# Altium schematic symbol library SCH - MCU - INFINEON XMC - INFINEON XMC4800F100.SchLib: 1 symbol
Pins are listed as number, name and electrical type; pins without a type are passive.

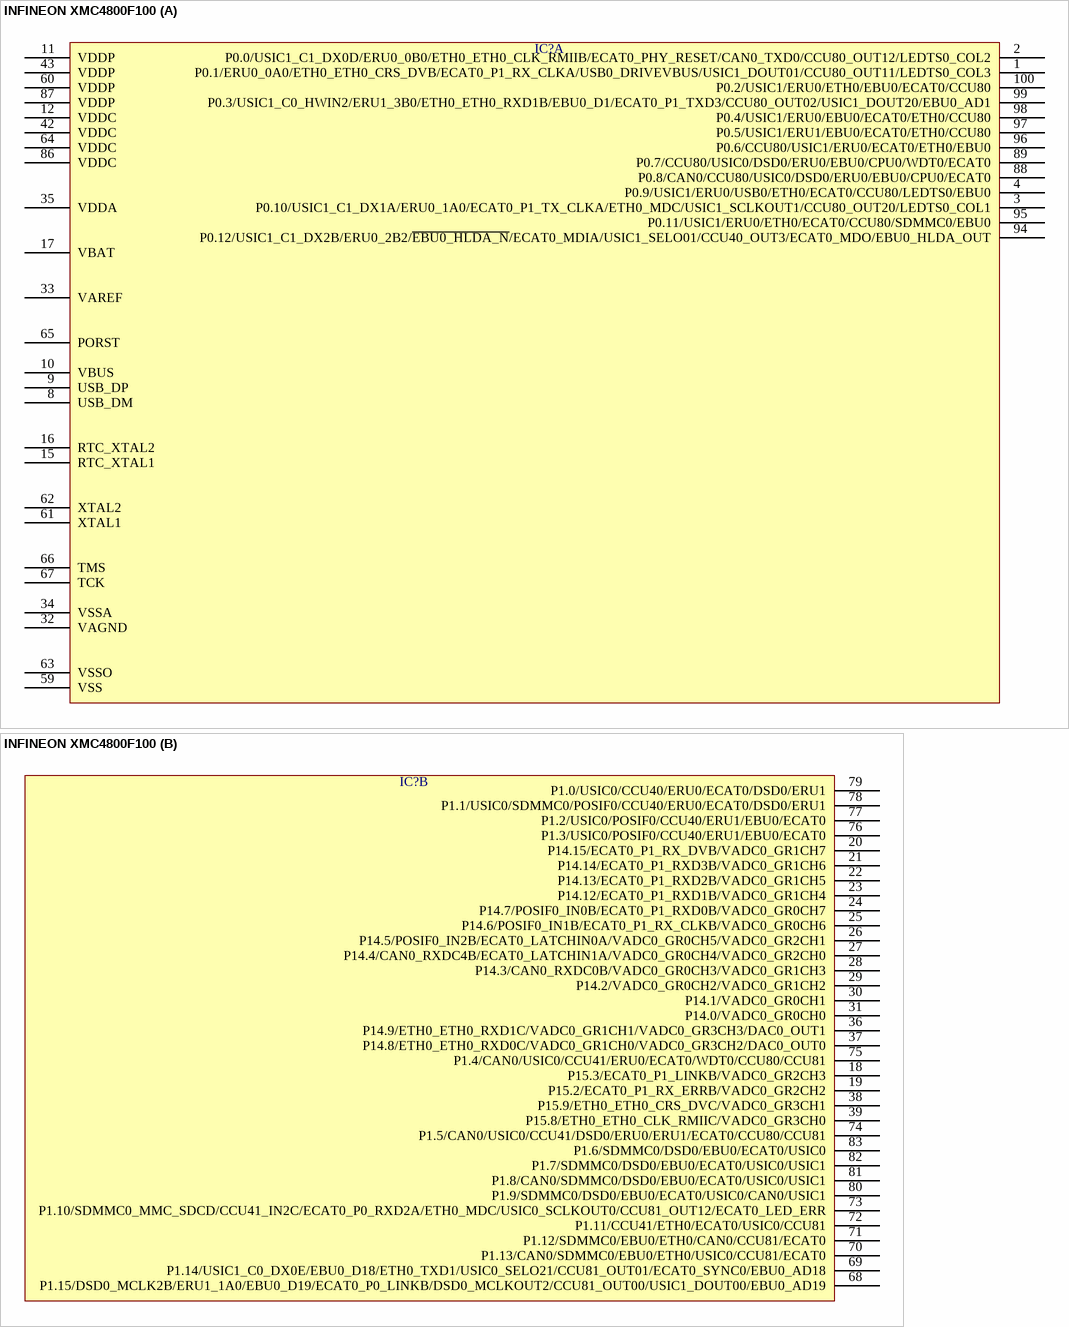
[diagram p0: symbol INFINEON XMC4800F100]

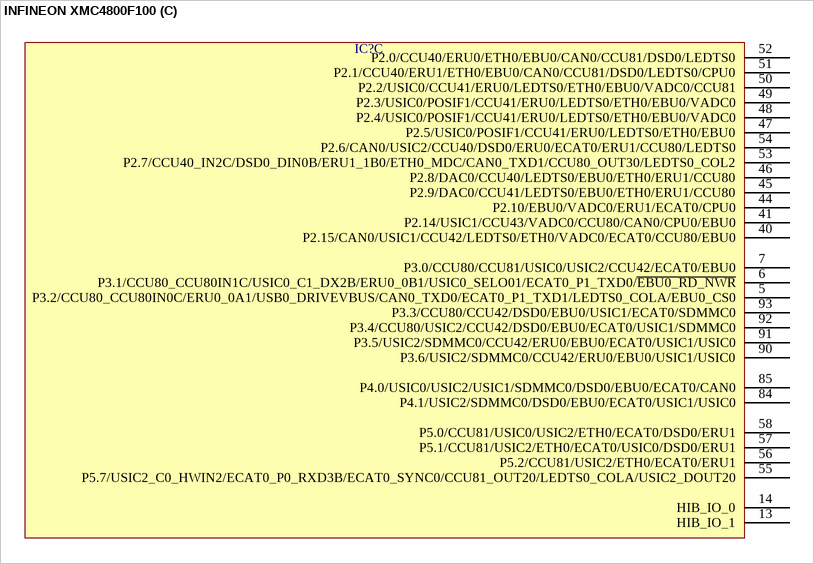
[diagram p1: symbol INFINEON XMC4800F100]

## INFINEON XMC4800F100
designator IC?  (value not drawn)
part A pins: 1 P0.1/ERU0_0A0/ETH0_ETH0_CRS_DVB/ECAT0_P1_RX_CLKA/USB0_DRIVEVBUS/USIC1_DOUT01/CCU80_OUT11/LEDTS0_COL3, 2 P0.0/USIC1_C1_DX0D/ERU0_0B0/ETH0_ETH0_CLK_RMIIB/ECAT0_PHY_RESET/CAN0_TXD0/CCU80_OUT12/LEDTS0_COL2, 3 P0.10/USIC1_C1_DX1A/ERU0_1A0/ECAT0_P1_TX_CLKA/ETH0_MDC/USIC1_SCLKOUT1/CCU80_OUT20/LEDTS0_COL1, 4 P0.9/USIC1/ERU0/USB0/ETH0/ECAT0/CCU80/LEDTS0/EBU0, 8 USB_DM, 9 USB_DP, 10 VBUS, 11 VDDP, 12 VDDC, 15 RTC_XTAL1, 16 RTC_XTAL2, 17 VBAT, 32 VAGND, 33 VAREF, 34 VSSA, 35 VDDA, 42 VDDC, 43 VDDP, 59 VSS, 60 VDDP, 61 XTAL1, 62 XTAL2, 63 VSSO, 64 VDDC, 65 PORST, 66 TMS, 67 TCK, 86 VDDC, 87 VDDP, 88 P0.8/CAN0/CCU80/USIC0/DSD0/ERU0/EBU0/CPU0/ECAT0, 89 P0.7/CCU80/USIC0/DSD0/ERU0/EBU0/CPU0/WDT0/ECAT0, 94 P0.12/USIC1_C1_DX2B/ERU0_2B2/~{EBU0_HLDA_N}/ECAT0_MDIA/USIC1_SELO01/CCU40_OUT3/ECAT0_MDO/EBU0_HLDA_OUT, 95 P0.11/USIC1/ERU0/ETH0/ECAT0/CCU80/SDMMC0/EBU0, 96 P0.6/CCU80/USIC1/ERU0/ECAT0/ETH0/EBU0, 97 P0.5/USIC1/ERU1/EBU0/ECAT0/ETH0/CCU80, 98 P0.4/USIC1/ERU0/EBU0/ECAT0/ETH0/CCU80, 99 P0.3/USIC1_C0_HWIN2/ERU1_3B0/ETH0_ETH0_RXD1B/EBU0_D1/ECAT0_P1_TXD3/CCU80_OUT02/USIC1_DOUT20/EBU0_AD1, 100 P0.2/USIC1/ERU0/ETH0/EBU0/ECAT0/CCU80
part B pins: 18 P15.3/ECAT0_P1_LINKB/VADC0_GR2CH3, 19 P15.2/ECAT0_P1_RX_ERRB/VADC0_GR2CH2, 20 P14.15/ECAT0_P1_RX_DVB/VADC0_GR1CH7, 21 P14.14/ECAT0_P1_RXD3B/VADC0_GR1CH6, 22 P14.13/ECAT0_P1_RXD2B/VADC0_GR1CH5, 23 P14.12/ECAT0_P1_RXD1B/VADC0_GR1CH4, 24 P14.7/POSIF0_IN0B/ECAT0_P1_RXD0B/VADC0_GR0CH7, 25 P14.6/POSIF0_IN1B/ECAT0_P1_RX_CLKB/VADC0_GR0CH6, 26 P14.5/POSIF0_IN2B/ECAT0_LATCHIN0A/VADC0_GR0CH5/VADC0_GR2CH1, 27 P14.4/CAN0_RXDC4B/ECAT0_LATCHIN1A/VADC0_GR0CH4/VADC0_GR2CH0, 28 P14.3/CAN0_RXDC0B/VADC0_GR0CH3/VADC0_GR1CH3, 29 P14.2/VADC0_GR0CH2/VADC0_GR1CH2, 30 P14.1/VADC0_GR0CH1, 31 P14.0/VADC0_GR0CH0, 36 P14.9/ETH0_ETH0_RXD1C/VADC0_GR1CH1/VADC0_GR3CH3/DAC0_OUT1, 37 P14.8/ETH0_ETH0_RXD0C/VADC0_GR1CH0/VADC0_GR3CH2/DAC0_OUT0, 38 P15.9/ETH0_ETH0_CRS_DVC/VADC0_GR3CH1, 39 P15.8/ETH0_ETH0_CLK_RMIIC/VADC0_GR3CH0, 68 P1.15/DSD0_MCLK2B/ERU1_1A0/EBU0_D19/ECAT0_P0_LINKB/DSD0_MCLKOUT2/CCU81_OUT00/USIC1_DOUT00/EBU0_AD19, 69 P1.14/USIC1_C0_DX0E/EBU0_D18/ETH0_TXD1/USIC0_SELO21/CCU81_OUT01/ECAT0_SYNC0/EBU0_AD18, 70 P1.13/CAN0/SDMMC0/EBU0/ETH0/USIC0/CCU81/ECAT0, 71 P1.12/SDMMC0/EBU0/ETH0/CAN0/CCU81/ECAT0, 72 P1.11/CCU41/ETH0/ECAT0/USIC0/CCU81, 73 P1.10/SDMMC0_MMC_SDCD/CCU41_IN2C/ECAT0_P0_RXD2A/ETH0_MDC/USIC0_SCLKOUT0/CCU81_OUT12/ECAT0_LED_ERR, 74 P1.5/CAN0/USIC0/CCU41/DSD0/ERU0/ERU1/ECAT0/CCU80/CCU81, 75 P1.4/CAN0/USIC0/CCU41/ERU0/ECAT0/WDT0/CCU80/CCU81, 76 P1.3/USIC0/POSIF0/CCU40/ERU1/EBU0/ECAT0, 77 P1.2/USIC0/POSIF0/CCU40/ERU1/EBU0/ECAT0, 78 P1.1/USIC0/SDMMC0/POSIF0/CCU40/ERU0/ECAT0/DSD0/ERU1, 79 P1.0/USIC0/CCU40/ERU0/ECAT0/DSD0/ERU1, 80 P1.9/SDMMC0/DSD0/EBU0/ECAT0/USIC0/CAN0/USIC1, 81 P1.8/CAN0/SDMMC0/DSD0/EBU0/ECAT0/USIC0/USIC1, 82 P1.7/SDMMC0/DSD0/EBU0/ECAT0/USIC0/USIC1, 83 P1.6/SDMMC0/DSD0/EBU0/ECAT0/USIC0
part C pins: 5 P3.2/CCU80_CCU80IN0C/ERU0_0A1/USB0_DRIVEVBUS/CAN0_TXD0/ECAT0_P1_TXD1/LEDTS0_COLA/EBU0_CS0, 6 P3.1/CCU80_CCU80IN1C/USIC0_C1_DX2B/ERU0_0B1/USIC0_SELO01/ECAT0_P1_TXD0/~{EBU0_RD_NWR}, 7 P3.0/CCU80/CCU81/USIC0/USIC2/CCU42/ECAT0/EBU0, 13 HIB_IO_1, 14 HIB_IO_0, 40 P2.15/CAN0/USIC1/CCU42/LEDTS0/ETH0/VADC0/ECAT0/CCU80/EBU0, 41 P2.14/USIC1/CCU43/VADC0/CCU80/CAN0/CPU0/EBU0, 44 P2.10/EBU0/VADC0/ERU1/ECAT0/CPU0, 45 P2.9/DAC0/CCU41/LEDTS0/EBU0/ETH0/ERU1/CCU80, 46 P2.8/DAC0/CCU40/LEDTS0/EBU0/ETH0/ERU1/CCU80, 47 P2.5/USIC0/POSIF1/CCU41/ERU0/LEDTS0/ETH0/EBU0, 48 P2.4/USIC0/POSIF1/CCU41/ERU0/LEDTS0/ETH0/EBU0/VADC0, 49 P2.3/USIC0/POSIF1/CCU41/ERU0/LEDTS0/ETH0/EBU0/VADC0, 50 P2.2/USIC0/CCU41/ERU0/LEDTS0/ETH0/EBU0/VADC0/CCU81, 51 P2.1/CCU40/ERU1/ETH0/EBU0/CAN0/CCU81/DSD0/LEDTS0/CPU0, 52 P2.0/CCU40/ERU0/ETH0/EBU0/CAN0/CCU81/DSD0/LEDTS0, 53 P2.7/CCU40_IN2C/DSD0_DIN0B/ERU1_1B0/ETH0_MDC/CAN0_TXD1/CCU80_OUT30/LEDTS0_COL2, 54 P2.6/CAN0/USIC2/CCU40/DSD0/ERU0/ECAT0/ERU1/CCU80/LEDTS0, 55 P5.7/USIC2_C0_HWIN2/ECAT0_P0_RXD3B/ECAT0_SYNC0/CCU81_OUT20/LEDTS0_COLA/USIC2_DOUT20, 56 P5.2/CCU81/USIC2/ETH0/ECAT0/ERU1, 57 P5.1/CCU81/USIC2/ETH0/ECAT0/USIC0/DSD0/ERU1, 58 P5.0/CCU81/USIC0/USIC2/ETH0/ECAT0/DSD0/ERU1, 84 P4.1/USIC2/SDMMC0/DSD0/EBU0/ECAT0/USIC1/USIC0, 85 P4.0/USIC0/USIC2/USIC1/SDMMC0/DSD0/EBU0/ECAT0/CAN0, 90 P3.6/USIC2/SDMMC0/CCU42/ERU0/EBU0/USIC1/USIC0, 91 P3.5/USIC2/SDMMC0/CCU42/ERU0/EBU0/ECAT0/USIC1/USIC0, 92 P3.4/CCU80/USIC2/CCU42/DSD0/EBU0/ECAT0/USIC1/SDMMC0, 93 P3.3/CCU80/CCU42/DSD0/EBU0/USIC1/ECAT0/SDMMC0